# EAGLE library part FT245R (library ftdichip)
FTDI - FT245R USB-FIFO Wrapper The FT245R is the latest device to be added to FTDI?s range of USB FIFO interface Integrated Circuit Devices. The FT245R is a USB to parallel FIFO interface, with the new FTDIChip-ID? security dongle feature. In addition, asynchronous and synchronous bit bang interface modes are available. USB to parallel designs using the FT245R have been further simplified by fully integrating the external EEPROM, clock circuit and USB resistors onto the device. The FT245R adds a new function compared with its predecessors, effectively making it a "2-in-1" chip for some application areas. A unique number (the FTDIChip-ID?) is burnt into the device during manufacture and is readable over USB, thus forming the basis of a security dongle which can be used to protect customer application software from being copied. The FT245R is available in Pb-free (RoHS compliant) compact 28-Lead SSOP and QFN-32 packages. To find out more about the FT245R, goto http://ftdichip.com/Products/FT245R.htm.
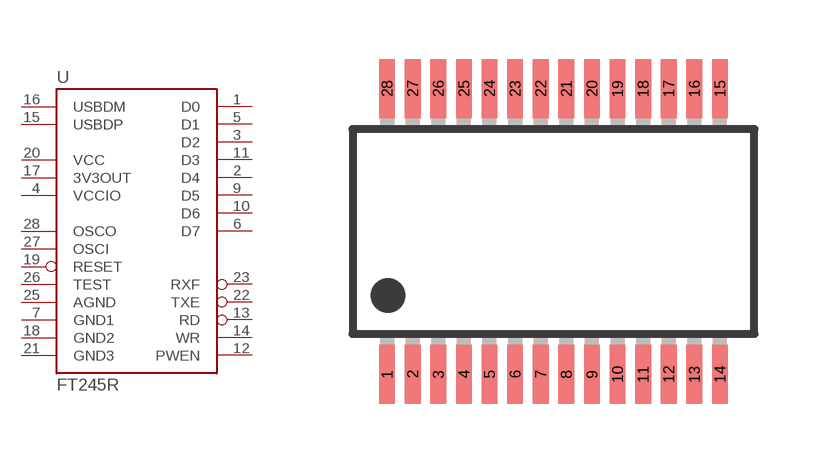
[diagram p5: symbol with the pads of SSOP-28; footprint SSOP-28]

Designator prefix -

## FT245RL  [SSOP-28]
1  D0  out
2  D4  out
3  D2  out
4  VCCIO  pwr
5  D1  in
6  D7  in
7  GND1  pwr
9  D5  in
10  D6  in
11  D3  in
12  PWEN
13  RD
14  WR
15  USBDP
16  USBDM
17  3V3OUT  out
18  GND2  pwr
19  RESET  in
20  VCC  pwr
21  GND3  pwr
22  TXE
23  RXF
25  AGND  pwr
26  TEST  in
27  OSCI  in
28  OSCO  out

## Footprint SSOP-28 (pad centres in mm)
Package SSOP-28
smd 0.4 x 1.5: 1 -4.225,-3.625; 2 -3.575,-3.625; 3 -2.925,-3.625; 4 -2.275,-3.625; 5 -1.625,-3.625; 6 -0.975,-3.625; 7 -0.325,-3.625; 8 0.325,-3.625; 9 0.975,-3.625; 10 1.625,-3.625; 11 2.275,-3.625; 12 2.925,-3.625; 13 3.575,-3.625; 14 4.225,-3.625; 15 4.225,3.625; 16 3.575,3.625; 17 2.925,3.625; 18 2.275,3.625; 19 1.625,3.625; 20 0.975,3.625; 21 0.325,3.625; 22 -0.325,3.625; 23 -0.975,3.625; 24 -1.625,3.625; 25 -2.275,3.625; 26 -2.925,3.625; 27 -3.575,3.625; 28 -4.225,3.625